# Altium footprint library Footprints.PcbLib: 43 footprints (part 3 of 3)
Each footprint in its own frame and in the unit in brackets; x right, y up, seen from the top. Pads: shape width x height; smd on the part's side, far side on the other; paste and mask are expansions set on the pad; w line width, h text height; cw(c..) or ccw(c..) is an arc to the next point about the centre after c.
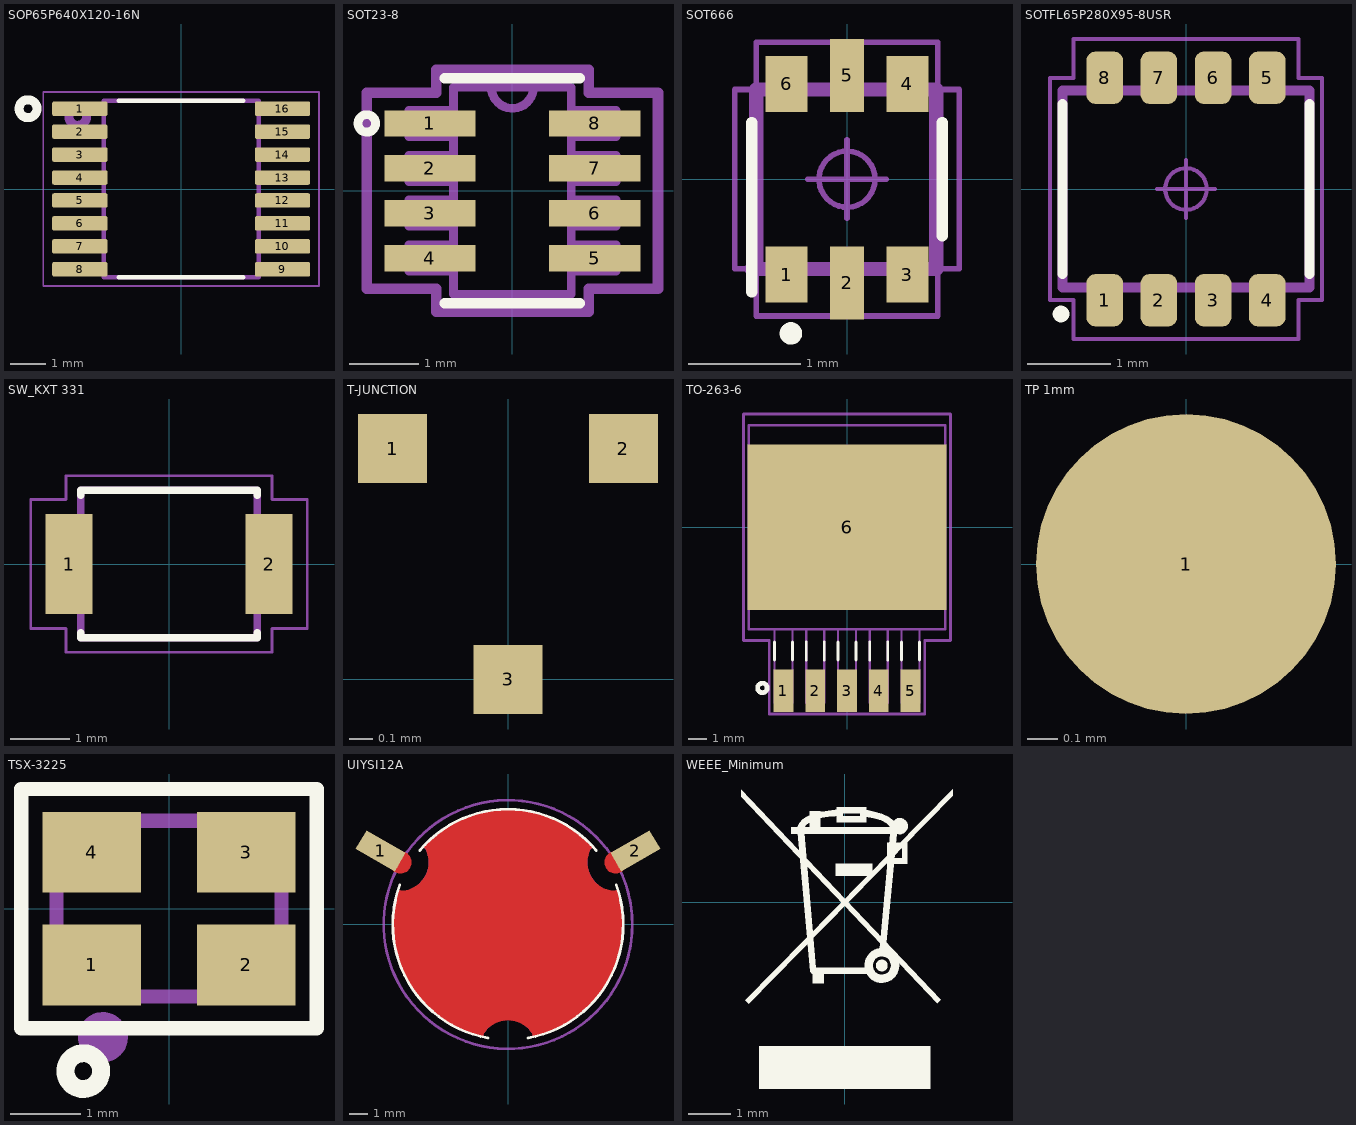
[diagram p2: the footprints below, top view; thin cyan lines are the x and y axes]

## SOP65P640X120-16N [mm]
pads (16):
  rrect25% 1.57x0.41 smd mask+0.051: 1(-2.87,2.275) 2(-2.87,1.625) 3(-2.87,0.975) 4(-2.87,0.325) 5(-2.87,-0.325) 6(-2.87,-0.975) 7(-2.87,-1.625) 8(-2.87,-2.275) 9(2.87,-2.275) 10(2.87,-1.625) 11(2.87,-0.975) 12(2.87,-0.325) 13(2.87,0.325) 14(2.87,0.975) 15(2.87,1.625) 16(2.87,2.275)
Top Overlay:
  circle w0.254: c-4.341,2.275 r0.254
  lines w0.127: -1.765,-2.5 1.765,-2.5 ; -1.765,2.5 1.765,2.5
Top Assembly:
  circle w0.254: c-2.93,2.055 r0.254
  lines w0.127: -2.2,-2.5 -2.2,2.5 2.2,2.5 2.2,-2.5 -2.2,-2.5
  text ".Designator" at -0.583,0.733 h1.52
Mechanical 15:
  lines w0.05: -3.905,-2.75 -3.905,2.75 3.905,2.75 3.905,-2.75 -3.905,-2.75
3D body "MAX232ECPWR.STEP": height 1.2, standoff 0, extent -3.2,-2.5 3.2,2.5

## SOT23-8 [mil]
pads (8):
  rect 52x15 smd paste+0 mask+0: 1(-47,38.39) 2(-47,12.8) 3(-47,-12.8) 4(-47,-38.39) 5(47,-38.39) 6(47,-12.8) 7(47,12.8) 8(47,38.39)
Top Overlay:
  circle w5: c-83,38.39 r5
  lines w6: -38.5,-64 38.5,-64 ; -38.5,64 38.5,64
Top Assembly:
  lines w5: -12,59 ccw(c0,59) 12,59 ; -59,-45.89 -33.5,-45.89 -33.5,-30.89 -59,-30.89 -59,-45.89 ; -59,-20.3 -59,-5.3 -33.5,-5.3 -33.5,-20.3 -59,-20.3 ; -59,5.3 -59,20.3 -33.5,20.3 -33.5,5.3 -59,5.3 ; -59,30.89 -59,45.89 -33.5,45.89 -33.5,30.89 -59,30.89 ; -33.5,-59 -33.5,59 33.5,59 33.5,-59 -33.5,-59 ; 33.5,-45.89 33.5,-30.89 59,-30.89 59,-45.89 33.5,-45.89 ; 33.5,-20.3 33.5,-5.3 59,-5.3 59,-20.3 33.5,-20.3 ; 33.5,5.3 33.5,20.3 59,20.3 59,5.3 33.5,5.3 ; 33.5,30.89 33.5,45.89 59,45.89 59,30.89 33.5,30.89
  text ".Designator" at -20.45,39.47 h60
Mechanical 15:
  lines w6: -83,-55.89 -83,55.89 -43.5,55.89 -43.5,69 43.5,69 43.5,55.89 83,55.89 83,-55.89 43.5,-55.89 43.5,-69 -43.5,-69 -43.5,-55.89 -83,-55.89
3D body "RJ_8_ADI.step": height 57.09, standoff 0, extent -59.01,-59.01 59.02,59.02

## SOT666 [mm] "Small Outline Transistor Flat Lead (SOTFL), 0.50 mm pitch;6 pin,1.60 mm L X 1.20 mm W X 0.60 mm H body"
height 0.6
pads (6):
  rect 0.375x0.5 smd mask+0.051: 1(-0.538,-0.85) 3(0.538,-0.85) 4(0.538,0.85) 6(-0.538,0.85)
  rect 0.3x0.65 smd mask+0.051: 2(0,-0.925) 5(0,0.925)
Top Overlay:
  circle w0.1: c-0.5,-1.375 r0.05
  lines w0.1: -0.85,-1.005 -0.85,0.505 ; 0.85,-0.505 0.85,0.505
Top Assembly:
  lines w0.127: 0.796,-0.8 0.796,0.8 ; 0.795,-0.8 0.796,-0.8 ; 0.795,-0.8 -0.85,-0.8 -0.81,-0.76 -0.81,0.8 0.795,0.8 ; 0.795,0.8 0.796,0.8
  text ".Designator" at -0.345,0.506 h1.02
Mechanical 15:
  circle w0.05: c0,0 r0.25
  lines w0.05: -0.35,0 0.35,0 ; 0,-0.35 0,0.35 ; -1,-0.8 -0.81,-0.8 -0.81,-1.22 0.81,-1.22 0.81,-0.8 1,-0.8 1,0.8 0.81,0.8 0.81,1.22 -0.81,1.22 -0.81,0.8 -1,0.8 -1,-0.8
3D body "SOT50P160X60-6.STEP": height 0.6, standoff 0, extent -0.795,-0.8 0.796,0.8

## SOTFL65P280X95-8USR [mm] "Small Outline Transistor Flat Lead (SOTFL), 0.65 mm pitch; 8 pin, 2.90 mm L X 2.30 mm W X 0.95 mm H body"
height 0.95
pads (8):
  rrect50% 0.44x0.63 smd mask+0.051: 1(-0.975,-1.335) 2(-0.325,-1.335) 3(0.325,-1.335) 4(0.975,-1.335) 5(0.975,1.335) 6(0.325,1.335) 7(-0.325,1.335) 8(-0.975,1.335)
Top Overlay:
  circle w0.1: c-1.5,-1.5 r0.05
  lines w0.12: -1.48,-1.02 -1.48,1.02 ; 1.48,-1.02 1.48,1.02
Top Assembly:
  lines w0.12: -1.48,-1.18 -1.48,1.18 1.48,1.18 1.48,-1.18 -1.48,-1.18
  text ".Designator" at 0.32,-0.546 h1.02
Mechanical 15:
  circle w0.05: c0,0 r0.25
  lines w0.05: -0.35,0 0.35,0 ; 0,-0.35 0,0.35 ; -1.63,-1.33 -1.35,-1.33 -1.35,-1.8 1.35,-1.8 1.35,-1.33 1.63,-1.33 1.63,1.33 1.35,1.33 1.35,1.8 -1.35,1.8 -1.35,1.33 -1.63,1.33 -1.63,-1.33
3D body "SOTFL65P280X95-8.STEP": height 0.95, standoff 0, extent -1.45,-1.47 1.45,1.47

## SW_KXT 331 [mm]
pads (2):
  rect 0.8x1.7 smd: 1(-1.7,0) 2(1.7,0)
Top Overlay:
  lines w0.127: -1.5,-1.17 -1.5,-1.25 1.5,-1.25 1.5,-1.17 ; -1.5,1.17 -1.5,1.25 1.5,1.25 1.5,1.17
Top Assembly:
  lines w0.127: -1.5,-1.25 1.5,-1.25 ; -1.5,-1.25 1.5,-1.25 ; -1.5,-1.25 -1.5,1.25 ; -1.5,-1.25 -1.5,1.25 ; -1.5,1.25 -0.85,1.25 ; -1.5,1.25 -0.85,1.25 ; -0.85,1.25 0.85,1.25 ; -0.85,1.25 0.85,1.25 ; 0.85,1.25 1.5,1.25 ; 0.85,1.25 1.5,1.25 ; 1.5,-1.25 1.5,1.25 ; 1.5,-1.25 1.5,1.25
  text ".Designator" at 0.34,-0.853 h1.02
Mechanical 15:
  lines w0.05: -2.35,-1.1 -1.75,-1.1 -1.75,-1.5 1.75,-1.5 1.75,-1.1 2.35,-1.1 2.35,1.1 1.75,1.1 1.75,1.5 -1.75,1.5 -1.75,1.1 -2.35,1.1 -2.35,-1.1
3D body "KXT 331 LHS--3DModel-STEP-1 (2).STEP": height 0.64, standoff -0.06, extent -1.75,-1.1 1.75,1.1

## T-JUNCTION [mm]
pads (3):
  rect 0.3x0.3 smd mask+0: 1(-0.5,1) 2(0.5,1) 3(0,0)

## TO-263-6 [mil]
pads (6):
  rect 42x90 smd paste+0 mask+0: 1(-134,-345) 2(-67,-345) 3(0,-345) 4(67,-345) 5(134,-345)
  rect 420x350 smd paste+0 mask+0: 6(0,0)
Top Overlay:
  circle w10: c-178.48,-339 r10
  lines w6: -153,-280 -153,-242.1 ; -115,-280 -115,-242.1 ; -86,-280 -86,-242.1 ; -48,-280 -48,-242.1 ; -19,-280 -19,-242.1 ; 19,-280 19,-242.1 ; 48,-280 48,-242.1 ; 86,-280 86,-242.1 ; 115,-280 115,-242.1 ; 153,-280 153,-242.1
Top Assembly:
  lines w5: -207.5,-215 -207.5,215 207.5,215 207.5,-215 -207.5,-215 ; -153,-370 -115,-370 -115,-215 -153,-215 -153,-370 ; -86,-370 -48,-370 -48,-215 -86,-215 -86,-370 ; -19,-370 19,-370 19,-215 -19,-215 -19,-370 ; 48,-370 48,-215 86,-215 86,-370 48,-370 ; 115,-370 153,-370 153,-215 115,-215 115,-370
  text ".Designator" at -20.08,-15.13 h60
Mechanical 15:
  lines w6: -218.5,-239 -164,-239 -164,-394 164,-394 164,-239 218.5,-239 218.5,239 -218.5,239 -218.5,-239
3D body "DDPAK-5_Q_LIT.step": height 182.12, standoff -0.01, extent -207.48,-350 207.48,165.12

## TP 1mm [mm] "1 mm Probe Pad"
pads (1):
  round 1 smd: 1(0,0)

## TSX-3225 [mm]
pads (4):
  rect 1.4x1.15 smd: 1(-1.1,-0.8) 2(1.1,-0.8) 3(1.1,0.8) 4(-1.1,0.8)
Top Overlay:
  circle w0.254: c-1.219,-2.311 r0.254
  lines w0.203: -2.1,-1.7 -2.1,1.7 2.1,1.7 2.1,-1.7 -2.1,-1.7
Top Assembly:
  circle w0.356: c-0.94,-1.829 r0.178
  lines w0.203: -1.6,-1.25 -1.6,1.25 1.6,1.25 1.6,-1.25 -1.6,-1.25
  text ".designator" at -0.452,0.532 h1.52
3D body "User Library-tsx-3225-1.STEP": height 0.6, standoff 0, extent -1.58,-1.227 1.62,1.273

## UIYSI12A [mm]
pads (2):
  rect 2.5x1.2 smd rot 150 mask+0: 1(-7.015,4.05)
  rect 2.5x1.2 smd rot 30 mask+0: 2(7.015,4.05)
Top Layer:
  region: -5.932,2.825 -6.052,2.825 -6.272,2.916 -6.441,3.085 -6.532,3.306 -6.532,3.425 -6.532,3.544 -6.441,3.765 -6.272,3.934 -6.052,4.025 -5.932,4.025 -5.813,4.025 -5.592,3.934 -5.424,3.765 -5.332,3.544 -5.332,3.425 -5.332,3.306 -5.424,3.085 -5.592,2.916 -5.813,2.825
  region: 5.932,2.825 5.813,2.825 5.592,2.916 5.424,3.085 5.332,3.306 5.332,3.425 5.332,3.544 5.424,3.765 5.592,3.934 5.813,4.025 5.932,4.025 6.052,4.025 6.272,3.934 6.441,3.765 6.532,3.544 6.532,3.425 6.532,3.306 6.441,3.085 6.272,2.916 6.052,2.825
  region: -1.42,-6.152 -1.736,-6.079 -2.349,-5.87 -2.938,-5.598 -3.495,-5.268 -4.016,-4.883 -4.495,-4.446 -4.926,-3.963 -5.306,-3.438 -5.63,-2.876 -5.895,-2.285 -6.098,-1.67 -6.237,-1.037 -6.31,-0.393 -6.317,0.255 -6.258,0.9 -6.133,1.536 -6.038,1.846 -6.032,1.866 -6,1.89 -5.959,1.892 -5.925,1.869 -5.917,1.85 -5.764,1.859 -5.464,1.922 -5.181,2.041 -4.927,2.213 -4.711,2.431 -4.541,2.687 -4.425,2.971 -4.365,3.272 -4.358,3.425 -4.361,3.526 -4.387,3.727 -4.438,3.922 -4.514,4.11 -4.561,4.199 -4.581,4.196 -4.618,4.215 -4.637,4.251 -4.632,4.291 -4.618,4.306 -4.397,4.543 -3.909,4.969 -3.379,5.343 -2.815,5.661 -2.221,5.919 -1.603,6.116 -0.969,6.248 -0.324,6.314 0.324,6.314 0.969,6.248 1.603,6.116 2.221,5.919 2.815,5.661 3.379,5.343 3.909,4.969 4.397,4.543 4.618,4.306 4.622,4.302 4.628,4.291 4.633,4.28 4.635,4.269 4.635,4.262 4.635,4.249 4.623,4.223 4.602,4.205 4.575,4.197 4.561,4.199 4.499,4.078 4.408,3.822 4.363,3.554 4.364,3.282 4.412,3.014 4.506,2.758 4.642,2.523 4.816,2.314 5.024,2.139 5.259,2.002 5.514,1.907 5.781,1.858 5.917,1.85 5.925,1.869 5.959,1.892 6,1.89 6.032,1.866 6.038,1.846 6.106,1.622 6.21,1.165 6.279,0.702 6.314,0.234 6.314,0 6.314,-0.354 6.235,-1.057 6.078,-1.747 5.844,-2.416 5.538,-3.054 5.162,-3.654 4.721,-4.207 4.221,-4.709 3.668,-5.151 3.07,-5.529 2.433,-5.837 1.765,-6.072 1.42,-6.152 1.4,-6.157 1.363,-6.141 1.341,-6.106 1.343,-6.066 1.356,-6.05 1.282,-5.936 1.105,-5.729 0.896,-5.555 0.66,-5.42 0.404,-5.328 0.136,-5.281 -0.136,-5.281 -0.404,-5.328 -0.66,-5.42 -0.896,-5.555 -1.105,-5.729 -1.282,-5.936 -1.356,-6.05 -1.353,-6.054 -1.347,-6.063 -1.344,-6.074 -1.342,-6.084 -1.342,-6.09 -1.342,-6.104 -1.355,-6.131 -1.378,-6.149 -1.406,-6.155
Top Overlay:
  lines w0.152: -5.967,2.172 ccw(c0,0) -1.103,-6.254 ; -4.864,4.082 cw(c0,0) 4.864,4.082 ; 1.103,-6.254 ccw(c0,0) 5.967,2.172
Top Paste:
  region: -5.932,2.825 -6.052,2.825 -6.272,2.916 -6.441,3.085 -6.532,3.306 -6.532,3.425 -6.532,3.544 -6.441,3.765 -6.272,3.934 -6.052,4.025 -5.932,4.025 -5.813,4.025 -5.592,3.934 -5.424,3.765 -5.332,3.544 -5.332,3.425 -5.332,3.306 -5.424,3.085 -5.592,2.916 -5.813,2.825
  region: 5.932,2.825 5.813,2.825 5.592,2.916 5.424,3.085 5.332,3.306 5.332,3.425 5.332,3.544 5.424,3.765 5.592,3.934 5.813,4.025 5.932,4.025 6.052,4.025 6.272,3.934 6.441,3.765 6.532,3.544 6.532,3.425 6.532,3.306 6.441,3.085 6.272,2.916 6.052,2.825
Top Solder:
  region: -5.932,2.825 -6.052,2.825 -6.272,2.916 -6.441,3.085 -6.532,3.306 -6.532,3.425 -6.532,3.544 -6.441,3.765 -6.272,3.934 -6.052,4.025 -5.932,4.025 -5.813,4.025 -5.592,3.934 -5.424,3.765 -5.332,3.544 -5.332,3.425 -5.332,3.306 -5.424,3.085 -5.592,2.916 -5.813,2.825
  region: 5.932,2.825 5.813,2.825 5.592,2.916 5.424,3.085 5.332,3.306 5.332,3.425 5.332,3.544 5.424,3.765 5.592,3.934 5.813,4.025 5.932,4.025 6.052,4.025 6.272,3.934 6.441,3.765 6.532,3.544 6.532,3.425 6.532,3.306 6.441,3.085 6.272,2.916 6.052,2.825
Top Assembly:
  circle w0.152: c0,0 r6.85
  lines w0.05: -5.932,1.825 ccw(c-5.932,3.425) -4.547,4.225 ; -1.386,-6.05 cw(c0,-6.85) 1.386,-6.05 ; 4.547,4.225 ccw(c5.932,3.425) 5.932,1.825
  lines w0.127: -5.977,1.827 ccw(c0,0) -1.406,-6.09 ; -4.571,4.262 cw(c0,0) 4.571,4.262 ; 1.406,-6.09 ccw(c0,0) 5.977,1.827
  text ".Designator" at -0.904,-0.605 h1.52

## WEEE_Minimum [mm]
Top Overlay:
  drawing of 23 lines, arcs and shapes, not listed